# EAGLE library part WIZFI250 (library WizFi250)
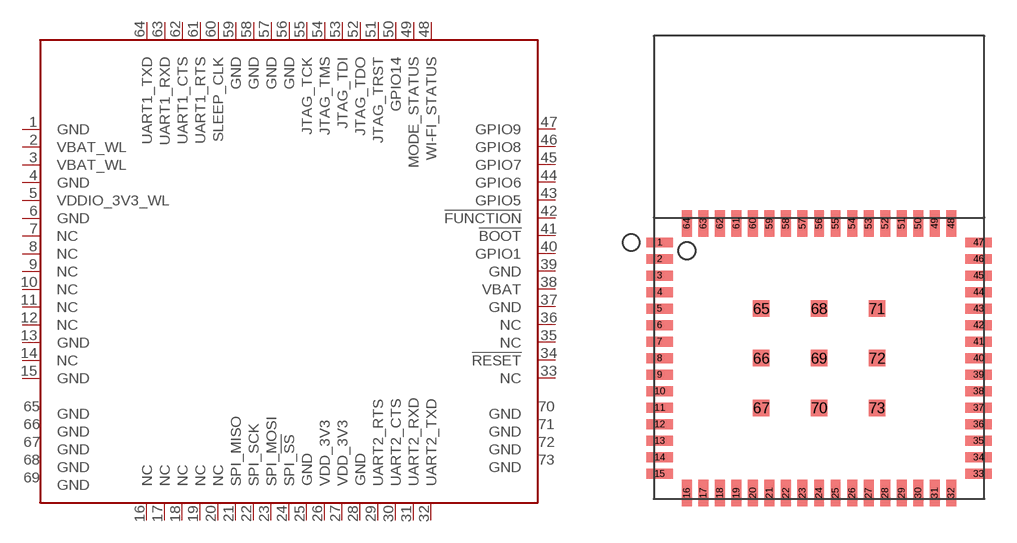
[diagram p0: symbol with the pads of WIZFI250; footprint WIZFI250]

Designator prefix M

## WIZFI250  [WIZFI250]
1  GND  pas
2  VBAT_WL  pas
3  VBAT_WL  pas
4  GND  pas
5  VDDIO_3V3_WL  pas
6  GND  pas
7  NC  pas
8  NC  pas
9  NC  pas
10  NC  pas
11  NC  pas
12  NC  pas
13  GND  pas
14  NC  pas
15  GND  pas
16  NC  pas
17  NC  pas
18  NC  pas
19  NC  pas
20  NC  pas
21  SPI_MISO  pas
22  SPI_SCK  pas
23  SPI_MOSI  pas
24  SPI_!SS  pas
25  GND  pas
26  VDD_3V3  pas
27  VDD_3V3  pas
28  GND  pas
29  UART2_RTS  pas
30  UART2_CTS  pas
31  UART2_RXD  pas
32  UART2_TXD  pas
33  NC  pas
34  !RESET  pas
35  NC  pas
36  NC  pas
37  GND  pas
38  VBAT  pas
39  GND  pas
40  GPIO1  pas
41  !BOOT  pas
42  !FUNCTION  pas
43  GPIO5  pas
44  GPIO6  pas
45  GPIO7  pas
46  GPIO8  pas
47  GPIO9  pas
48  WI-FI_STATUS  pas
49  MODE_STATUS  pas
50  GPIO14  pas
51  JTAG_TRST  pas
52  JTAG_TDO  pas
53  JTAG_TDI  pas
54  JTAG_TMS  pas
55  JTAG_TCK  pas
56  GND  pas
57  GND  pas
58  GND  pas
59  GND  pas
60  SLEEP_CLK  pas
61  UART1_RTS  pas
62  UART1_CTS  pas
63  UART1_RXD  pas
64  UART1_TXD  pas
65  GND  pas
66  GND  pas
67  GND  pas
68  GND  pas
69  GND  pas
70  GND  pas
71  GND  pas
72  GND  pas
73  GND  pas

## Footprint WIZFI250 (pad centres in mm)
smd 1.6 x 0.6: 1 -9.65,1.5; 2 -9.65,0.5; 3 -9.65,-0.5; 4 -9.65,-1.5; 5 -9.65,-2.5; 6 -9.65,-3.5; 7 -9.65,-4.5; 8 -9.65,-5.5; 9 -9.65,-6.5; 10 -9.65,-7.5; 11 -9.65,-8.5; 12 -9.65,-9.5; 13 -9.65,-10.5; 14 -9.65,-11.5; 15 -9.65,-12.5; 33 9.65,-12.5; 34 9.65,-11.5; 35 9.65,-10.5; 36 9.65,-9.5; 37 9.65,-8.5; 38 9.65,-7.5; 39 9.65,-6.5; 40 9.65,-5.5; 41 9.65,-4.5; 42 9.65,-3.5; 43 9.65,-2.5; 44 9.65,-1.5; 45 9.65,-0.5; 46 9.65,0.5; 47 9.65,1.5
smd 0.6 x 1.6: 16 -8,-13.65; 17 -7,-13.65; 18 -6,-13.65; 19 -5,-13.65; 20 -4,-13.65; 21 -3,-13.65; 22 -2,-13.65; 23 -1,-13.65; 24 0,-13.65; 25 1,-13.65; 26 2,-13.65; 27 3,-13.65; 28 4,-13.65; 29 5,-13.65; 30 6,-13.65; 31 7,-13.65; 32 8,-13.65; 48 8,2.65; 49 7,2.65; 50 6,2.65; 51 5,2.65; 52 4,2.65; 53 3,2.65; 54 2,2.65; 55 1,2.65; 56 0,2.65; 57 -1,2.65; 58 -2,2.65; 59 -3,2.65; 60 -4,2.65; 61 -5,2.65; 62 -6,2.65; 63 -7,2.65; 64 -8,2.65
smd 1 x 1: 65 -3.5,-2.5; 66 -3.5,-5.5; 67 -3.5,-8.5; 68 0,-2.5; 69 0,-5.5; 70 0,-8.5; 71 3.5,-2.5; 72 3.5,-5.5; 73 3.5,-8.5